# Altium schematic symbol library Capacitor.Schlib: 1 symbol
Pins are listed as number, name and electrical type; pins without a type are passive.

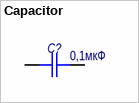
[diagram p0: symbol Capacitor]

## Capacitor
designator C?, comment value 0,1мкФ  (hidden comment: K10-79)
Capacitor; Назначение: SMD-конденсатор; Наименование: К10-79; Потребление, Вт: 0; Точность: %; Напряжение: В; Диэлектрик: *
footprint SMD_C0402
footprint SMD_C0603
footprint SMD_C0805
footprint SMD_C1206
footprint SMD_C1206-C0805
pins: 1, 2